# Altium schematic symbol library SFH11-PBPC-D17-ST-BK.SchLib: 1 symbol
Pins are listed as number, name and electrical type; pins without a type are passive.

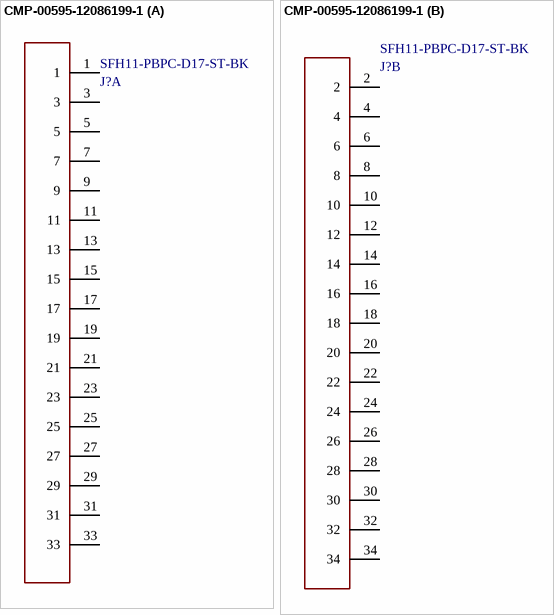
[diagram p0: symbol CMP-00595-12086199-1]

## CMP-00595-12086199-1
designator J?, comment SFH11-PBPC-D17-ST-BK
Conn Socket Strip F 34 POS 2.54mm Solder ST Top Entry Thru-Hole; Manufacturer: Sullins; Conn Gender: Female; Is Female: yes; Symbol Hash: 47861b5ac6ef885376408aea887e7ae2a49b5eaead8ca68692cc2d4c3848e466; Current Rating: 3A; Verification Version: 0.0.0.3; Number Of Contacts: 34; Conn Orientation: Straight; Connector Type: Header, Socket; Datasheet Version: J; Datasheet Date: 2015-05-12; Temperature Range High: +105°C; Digikey Description: CONN HDR 34POS 0.1 GOLD PCB; Digikey Part Number: S9199-ND; Temperature Range Low: -40°C; Package: 0; ComponentLink2URL: https://drawings-pdf.s3.amazonaws.com/11160.pdf; ComponentLink2Description: Datasheet; Part Number: SFH11-PBPC-D17-ST-BK; Lead Free: Yes; Height: 8.7mm; Automotive: No; RoHS: TRUE; Pitch: 2.54mm; Number Of Rows: 2; Contact Material: Gold,Nickel; ComponentLink1Description: Upverter; Supplier 2: Mouser; Supplier 1: Digi-Key; ComponentLink1URL: https://upverter.com/part/id/a5eeacac84aa5b6f/; Supplier Part Number 1: S9199-ND; helpURL: https://upverter.com/part/id/a5eeacac84aa5b6f/; Temperature: -40°C to +105°C; Lead Free: Lead Free; Contact Plating: Gold; HelpURL: https://drawings-pdf.s3.amazonaws.com/11160.pdf; ComponentLink2Description: Datasheet URL; Number of Rows: 2; Row Spacing: 2.54mm; Color: Black; Mount: Through Hole; Termination: Solder; RoHS: Compliant; Number of Positions: 34
footprint SFH11-PBPC-D17-ST-BK_MFG (Recommended Land Pattern)
part A pins: 1, 3, 5, 7, 9, 11, 13, 15, 17, 19, 21, 23, 25, 27, 29, 31, 33
part B pins: 2, 4, 6, 8, 10, 12, 14, 16, 18, 20, 22, 24, 26, 28, 30, 32, 34